# EAGLE library part LCD_DISPLAY (library game_parts_library)
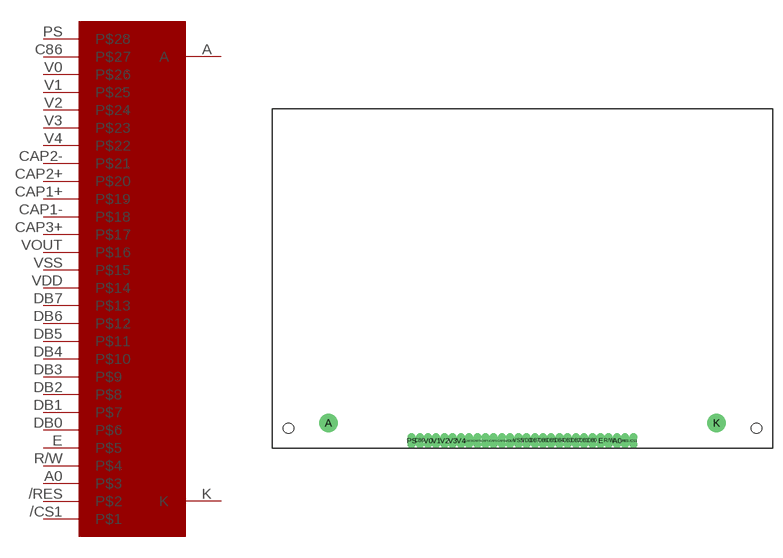
[diagram p0: symbol with the pads of LCD_SCREEN; footprint LCD_SCREEN]

Designator prefix -

## LCD_DISPLAY  [LCD_SCREEN]
/CS1  P$1
/RES  P$2
A  A  pwr
A0  P$3
C86  P$27
CAP1+  P$19
CAP1-  P$18
CAP2+  P$20
CAP2-  P$21
CAP3+  P$17
DB0  P$6
DB1  P$7
DB2  P$8
DB3  P$9
DB4  P$10
DB5  P$11
DB6  P$12
DB7  P$13
E  P$5
K  K  pwr
PS  P$28
R/W  P$4
V0  P$26
V1  P$25
V2  P$24
V3  P$23
V4  P$22
VDD  P$14
VOUT  P$16
VSS  P$15

## Footprint LCD_SCREEN (pad centres in mm)
drill 0.7 pad 0.94 long: /CS1 17.14,0; /RES 15.87,0; A0 14.6,0; C86 -15.88,0; CAP1+ -5.72,0; CAP1- -4.45,0; CAP2+ -6.99,0; CAP2- -8.26,0; CAP3+ -3.18,0; DB0 10.79,0; DB1 9.52,0; DB2 8.25,0; DB3 6.98,0; DB4 5.71,0; DB5 4.44,0; DB6 3.17,0; DB7 1.9,0; E 12.06,0; PS -17.15,0; R/W 13.33,0; V0 -14.61,0; V1 -13.34,0; V2 -12.07,0; V3 -10.8,0; V4 -9.53,0; VDD 0.63,0; VOUT -1.91,0; VSS -0.64,0
drill 1.9 pad 2.9: A -30,2.74; K 30,2.74
hole 1.6 at -36.2,1.95
hole 1.6 at 36.2,1.95